# Altium schematic symbol library S3C2440V9.SCHLIB: 77 symbols
Pins are listed as number, name and electrical type; pins without a type are passive.

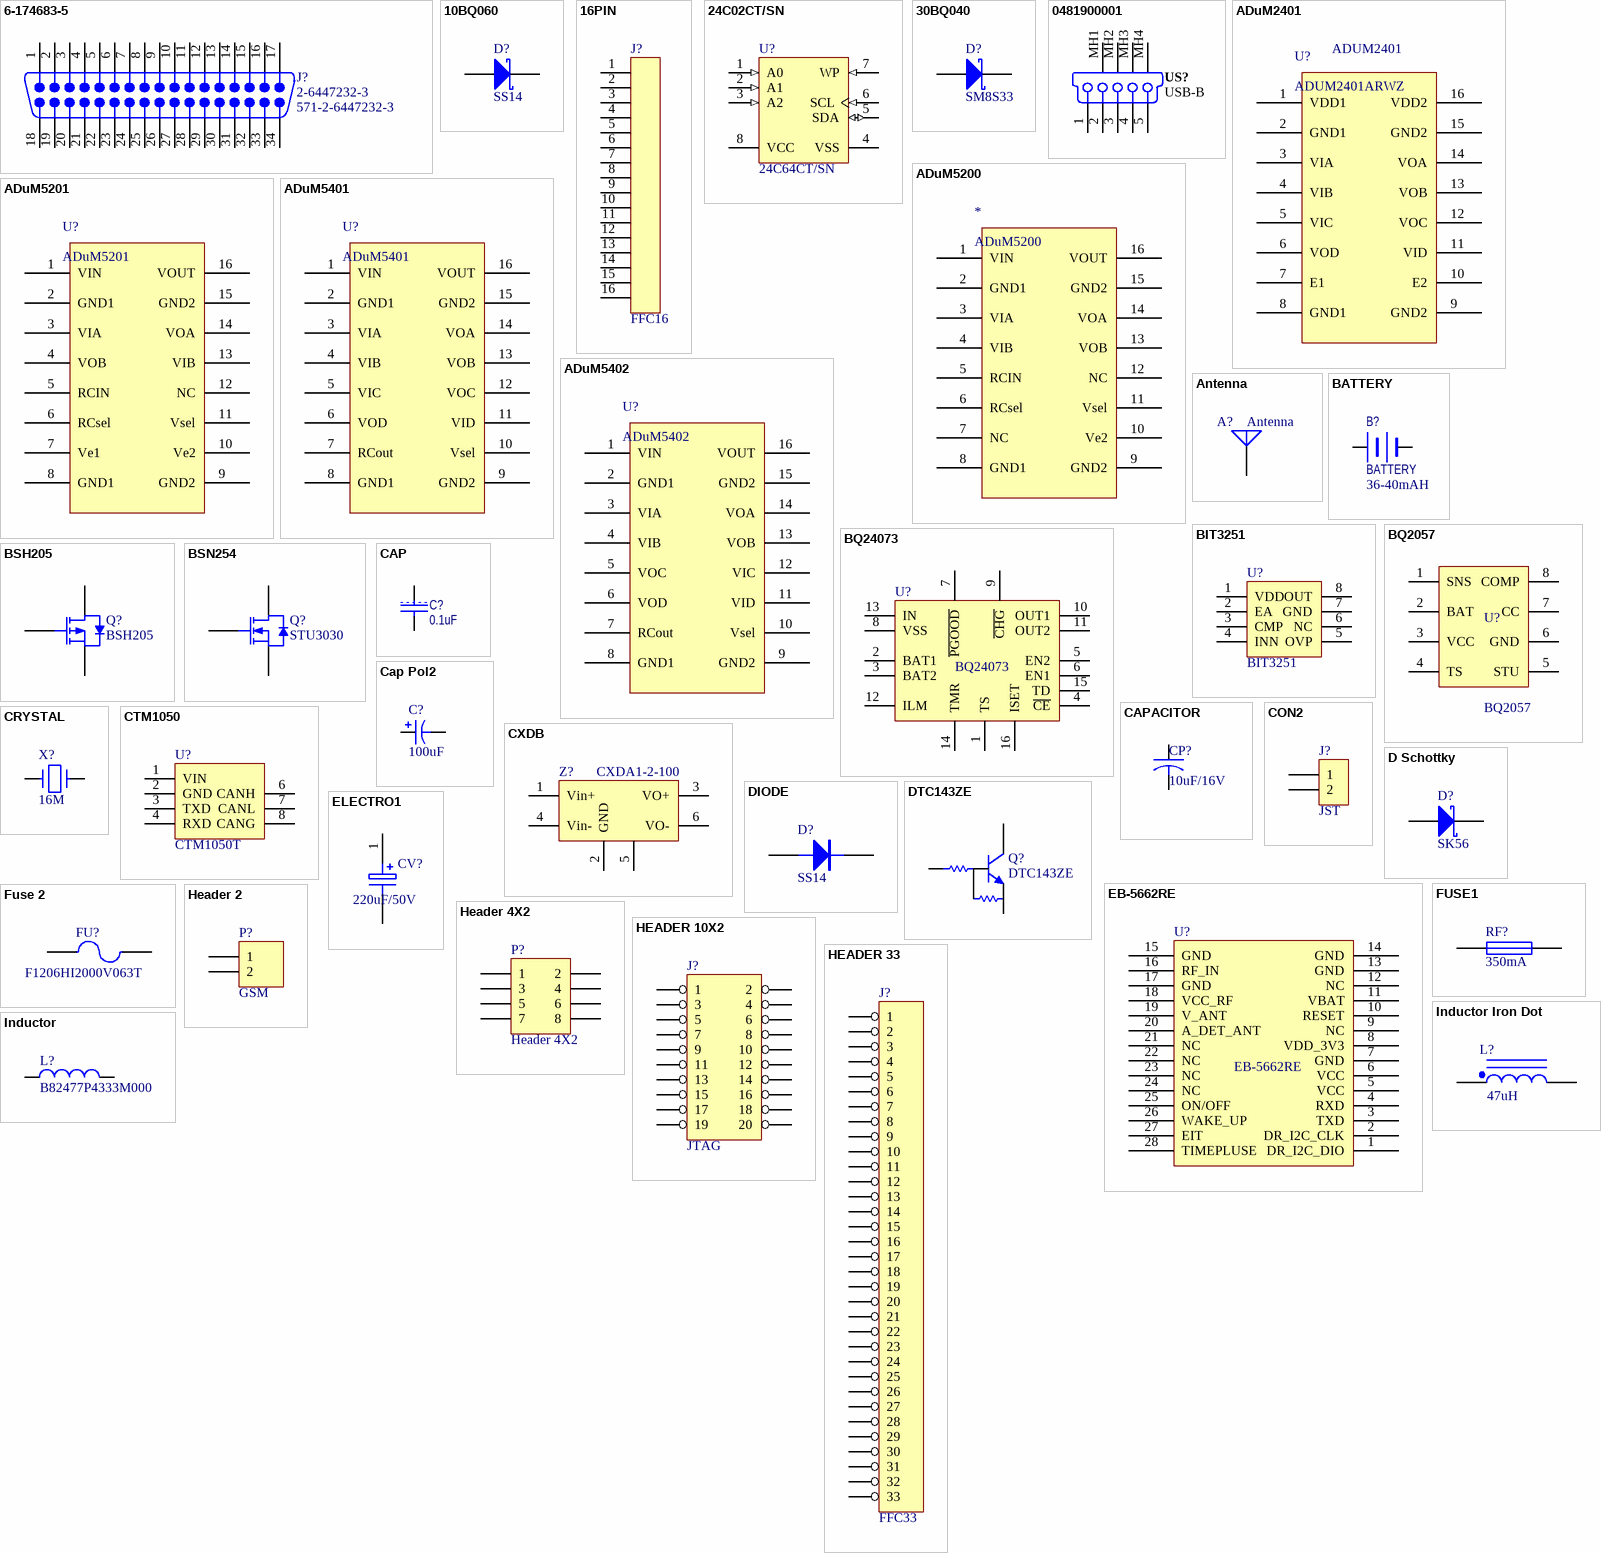
[diagram p0: symbols 6-174683-5 to Inductor Iron Dot]

## 6-174683-5
designator J?, comment 2-6447232-3  Supplier Part Number 1: 571-2-6447232-3
接插件; Positions: 34; Note: Series I; Gender: Plug Header; Note: Without Mating Lock; PCB_Layout: Complies with manufacturer's recommendation.; DrillSize: Corresponds to nominal value.; Published: 17-Jul-2002; DatasheetDocument: 29-Mar-1991; PackageDocument: 29-Mar-1991; PackageReference: 6-174683-5; Publisher: Altium Limited; Orientation: Vertical; ComponentLink1Description: Manufacturer Link; ComponentLink1URL: http://www.tycoelectronics.com/; ComponentLink2Description: Packaging Specification; ComponentLink2URL: http://ecommas.tycoelectronics.com/commerce/DocumentDelivery/DDEController?Action=showdoc&DocId=Customer+Drawing%7F174683%7FB%7Fpdf%7FEnglish%7FENG_CD_174683_B.pdf; ComponentLink3Description: Iges Model; ComponentLink3URL: http://catalog.tycoelectronics.com/TE/docs/cadgeo/0/13/30310.tar.gz; Supplier 1: Mouser
signal-integrity model D Subminiature
footprint 2-6447232-3 (Footprint not found)
pins: 1, 2, 3, 4, 5, 6, 7, 8, 9, 10, 11, 12, 13, 14, 15, 16, 17, 18, 19, 20, 21, 22, 23, 24, 25, 26, 27, 28, 29, 30, 31, 32, 33, 34

## 10BQ060
designator D?, comment SS14
肖特基二极管; Published: 8-Jun-2000; LatestRevisionDate: 17-Jul-2002; LatestRevisionNote: Re-released for DXP Platform.; DatasheetVersion: PD-2.438A; PackageReference: SMB; Publisher: Altium Limited; PackageDescription: DO-214-AA/SMB; 2 C-Bend Leads; Body 5.3 x 3.6 mm, inc. leads (LxW); ComponentLink1Description: Manufacturer Link; ComponentLink1URL: http://www.irf.com/; ComponentLink2Description: Datasheet; ComponentLink2URL: http://www.irf.com/product-info/datasheets/data/10bq60.pdf
simulation model 10BQ060 (DIODE)
signal-integrity model 10BQ060
footprint DIODE_SMC (Diode; 2 Leads)
pins: 1 A, 2 K

## 16PIN
designator J?, comment FFC16
接插件
footprint FFC/SM0.5-2H16 (Connector; FH12 Series; 16 Position; 0.5mm Spaced Bottom Contact)
pins: 1, 2, 3, 4, 5, 6, 7, 8, 9, 10, 11, 12, 13, 14, 15, 16

## 24C02CT/SN
designator U?, comment 24C64CT/SN
集成电路; Published: 29-Jan-2009; DatasheetVersion: revJ, Aug-2008; PackageVersion: revBB, Aug-2009; PackageReference: SOIC-SN8; Publisher: Altium Limited; PackageDescription: 8-Lead Plastic Small Outline (SN) - Narrow, 3.90mm Body [SOIC]; Supplier 1: Digi-Key; Supplier Part Number 1: 24C02CT/SN-ND; Code_JEDEC: MS-012; Code_IPC: SOIC127P600-8; ComponentLink1Description: Datasheet; ComponentLink1URL: http://ww1.microchip.com/downloads/en/DeviceDoc/21202J.pdf; ComponentLink2Description: Packaging Specification; ComponentLink2URL: http://www.microchip.com/stellent/groups/techpub_sg/documents/packagingspec/en012702.pdf; ComponentLink3Description: Microchip.com Home; ComponentLink3URL: http://www.microchip.com/; Supplier 2: Newark; Supplier Part Number 2: 08R5417
footprint SOIC-SN8_N (SOIC, 8-Leads, Body 4.9x3.8mm, Pitch 1.27mm, IPC Medium Density)
pins: 1 A0 (in), 2 A1 (in), 3 A2 (in), 4 VSS (power), 5 SDA (io), 6 SCL (in), 7 WP (in), 8 VCC (power)

## 30BQ040
designator D?, comment SM8S33
TVS; 公司: Vishay; Published: 8-Jun-2000; LatestRevisionDate: 17-Jul-2002; LatestRevisionNote: Re-released for DXP Platform.; DatasheetVersion: PD-2.439; PackageReference: SMC; Publisher: Altium Limited; PackageDescription: DO-214-AB/SMC; 2 C-Bend Leads; Body 7.9 x 5.9 mm, inc. leads (LxW); Code_JEDEC: DO-214-AB; ComponentLink1Description: Manufacturer Link; ComponentLink1URL: http://www.irf.com/; ComponentLink2Description: Datasheet; ComponentLink2URL: http://www.irf.com/product-info/datasheets/data/30bq040.pdf; 参数: *
signal-integrity model 30BQ040
footprint DIODE_SMC (Diode; 2 Leads)
pins: 1 A, 2 K

## 0481900001
designator US?, comment USB-B
USB On-The-Go (OTG) Mini-B Receptacle, Right Angle, SMT, 0.80mm (.031") Pitch, Solder Tabs with Back Cover, Recessed Type; Max Current: mA; Connector type: Right Angle; Mounting Technology: Surface Mount; Status: Unreleased; Category: Connector
footprint USB/SM0.8-6H5 (Connector; USB2.0, Type B, SM; 5 Position; Right Angle)
pins: 1, 2, 3, 4, 5, MH1, MH2, MH3, MH4

## ADuM2401
designator U?, comment ADUM2401ARWZ  Series: ADUM2401
ADuM2401 1IN 3OUT; Manufacturer: Analog Devices; Description: Isolator Interface IC Digital Quad-CH; Isolation Voltage: 846 V; Supply Current: 0.53 mA; Number of Channels: 4 Channel; Number of Input Lines: 3; Maximum Data Rate: 1 Mbps; Propagation Delay Time: 32 ns; Supply Voltage - Max: 5.5 V; Supply Voltage - Min: 2.7 V; Product Status: New at Mouser; Supplier 1: Mouser; Manufacturer Part Number: ADUM2401ARWZ; RoHS: RoHS Compliant; Category: Isolator Interface IC; Stock 1: 339; Pricing 1: 1=9.54, 10=8.59, 25=7.82, 50=7.29, 100=7.06, 250=6.48, 500=5.91, 1000=5.16, 2500=5.09 (AUD); Package / Case: SOIC-16; Packaging: Tube; Mounting Style: SMD/SMT; Maximum Operating Temperature: + 105 C; Minimum Operating Temperature: - 40 C; Standard Pack Qty: 47; RoHS - Mouser: Y; Minimum Order Quantity: 1; Reeling: False; ComponentLink1URL: http://www.analog.com/static/imported-files/data_sheets/ADuM2400_2401_2402.pdf; ComponentLink1Description: http://www.analog.com/static/imported-files/data_sheets/ADuM2400_2401_2402.pdf; Supplier Part Number 1: 584-ADUM2401ARWZ
footprint SOIC16W_N (SOIC, 16-Leads, Body 10.3x7.5mm, Pitch 1.27mm, IPC Low Density)
pins: 1 VDD1, 2 GND1, 3 VIA, 4 VIB, 5 VIC, 6 VOD, 7 E1, 8 GND1, 9 GND2, 10 E2, 11 VID, 12 VOC, 13 VOB, 14 VOA, 15 GND2, 16 VDD2

## ADuM5200
designator *
pins: 1 VIN, 2 GND1, 3 VIA, 4 VIB, 5 RCIN, 6 RCsel, 7 NC, 8 GND1, 9 GND2, 10 Ve2, 11 Vsel, 12 NC, 13 VOB, 14 VOA, 15 GND2, 16 VOUT

## ADuM5201
designator U?
pins: 1 VIN, 2 GND1, 3 VIA, 4 VOB, 5 RCIN, 6 RCsel, 7 Ve1, 8 GND1, 9 GND2, 10 Ve2, 11 Vsel, 12 NC, 13 VIB, 14 VOA, 15 GND2, 16 VOUT

## ADuM5401
designator U?
ADuM5401 1IN 3OUT
pins: 1 VIN, 2 GND1, 3 VIA, 4 VIB, 5 VIC, 6 VOD, 7 RCout, 8 GND1, 9 GND2, 10 Vsel, 11 VID, 12 VOC, 13 VOB, 14 VOA, 15 GND2, 16 VOUT

## ADuM5402
designator U?
ADuM5402 2IN 2OUT
pins: 1 VIN, 2 GND1, 3 VIA, 4 VIB, 5 VOC, 6 VOD, 7 RCout, 8 GND1, 9 GND2, 10 Vsel, 11 VID, 12 VIC, 13 VOB, 14 VOA, 15 GND2, 16 VOUT

## Antenna
designator A?
Generic Antenna; Published: 24-Mar-1999; LatestRevisionDate: 17-Jul-2002; LatestRevisionNote: Re-released for DXP Platform.; PackageReference: PIN1; Publisher: Altium Limited
footprint PIN1
pins: 1 A
2 alternate drawings of the same symbol

## BATTERY
designator B?  volume: 36-40mAH
电池座
footprint BR2032-1GV (CR2032-1GV)
pins: 1, 2

## BIT3251
designator U?
集成电路
footprint SOIC-SN8_N (SOIC, 8-Leads, Body 4.9x3.8mm, Pitch 1.27mm, IPC Medium Density)
pins: 1 VDD, 2 EA, 3 CMP, 4 INN, 5 OVP, 6 NC, 7 GND, 8 OUT

## BQ2057
designator U?
集成电路
footprint SOIC-SN8_N (SOIC, 8-Leads, Body 4.9x3.8mm, Pitch 1.27mm, IPC Medium Density)
pins: 1 SNS, 2 BAT, 3 VCC, 4 TS, 5 STU, 6 GND, 7 CC, 8 COMP

## BQ24073
designator U?
footprint BQ24073
pins: 1 TS, 2 BAT1, 3 BAT2, 4 ~{CE}, 5 EN2, 6 EN1, 7 ~{PGOOD}, 8 VSS, 9 ~{CHG}, 10 OUT1, 11 OUT2, 12 ILM, 13 IN, 14 TMR, 15 TD, 16 ISET
2 alternate drawings of the same symbol

## BSH205
designator Q?
P-channel Enhancement Mode MOSFET; Published: 17-Sep-2003; LatestRevisionDate: 12-Dec-2006; LatestRevisionNote: IPC-7351 Footprint Added.; DatasheetVersion: Aug-1998; PackageVersion: May-1999; PackageReference: SOT23; Publisher: Altium Limited; PackageDescription: 3-Pin SOT-23 Package 0.95 mm Pitch, 2.3 mm Lead Span; ComponentLink1Description: Manufacturer Link; ComponentLink1URL: http://www.semiconductors.philips.com/; ComponentLink2Description: Datasheet; ComponentLink2URL: http://www.semiconductors.philips.com/acrobat/datasheets/BSH205_3.pdf
footprint SOT23_N (SOT23, 3-Leads, Body 2.9x1.3mm, Pitch 0.95mm, Lead Span 2.3mm, IPC Medium Density)
footprint SOT23_L (SOT23, 3-Leads, Body 2.9x1.3mm, Pitch 0.95mm, Lead Span 2.3mm, IPC High Density)
footprint SOT23_M (SOT23, 3-Leads, Body 2.9x1.3mm, Pitch 0.95mm, Lead Span 2.3mm, IPC Low Density)
simulation model BSH205 (SUBCKT)
pins: 1 G, 2 S, 3 D

## BSN254
designator Q?, comment STU3030
NMOS; Published: 17-Sep-2003; LatestRevisionDate: 12-Dec-2006; LatestRevisionNote: Footprint pad layout fixed.; DatasheetVersion: 19-Feb-2002; PackageVersion: Mar-1998; PackageReference: SOT54_variant; Publisher: Altium Limited; PackageDescription: Plastic single-ended leaded (through hole) package; 3 leads on-circle; Code_JEITA: SC-43; Code_JEDEC: TO-92 Variant; ComponentLink1Description: Manufacturer Link; ComponentLink1URL: http://www.semiconductors.philips.com/; ComponentLink2Description: Datasheet; ComponentLink2URL: http://www.semiconductors.philips.com/acrobat/datasheets/BSN254_BSN254A_3.pdf
simulation model BSN254 (SUBCKT)
footprint TO-252AA_N (D-PAK, 4-Leads, Body 6.1x6.5mm, Pitch 2.28mm, Lead Span 9.9mm, IPC Medium Density)
pins: 1 G, 3 S, 4 D

## CAP
designator C?, comment 0.1uF
电容
footprint 1608[0603] (Chip Capacitor; Body 1.6 x 0.8 mm (LxW typ))
pins: 1, 2

## Cap Pol2
designator C?  value 100uF
Polarized Capacitor (Axial); Published: 8-Jun-2000; LatestRevisionDate: 17-Jul-2002; LatestRevisionNote: Re-released for DXP Platform.; PackageReference: POLAR0.8; Publisher: Altium Limited
footprint POLAR0.8
footprint CAPPA14.05-10.5x6.3
footprint CAPPA23.6-18.5x8.5
footprint CAPPA31.6-26.5x12.5
footprint 1206C
pins: 1, 2
2 alternate drawings of the same symbol

## CAPACITOR
designator CP?, comment 10uF/16V
坦电容
footprint 3216[1206] (Chip Resistor; Body 3.2 x 1.6 mm (LxW typ))
footprint 3528 (Capacitor, SM Tantalum; Body 3.5 x 2.8 mm (LxW typ))
pins: 1, 2

## CON2
designator J?, comment JST
接插件
footprint JST
pins: 1, 2

## CRYSTAL
designator X?, comment 16M
晶振; Part Field 1: 1; Part Field 5: 1; Part Field 6: 1000K
footprint OSC2PR-1
pins: 1, 2
2 alternate drawings of the same symbol

## CTM1050
designator U?, comment CTM1050T
集成电路
footprint DIP-7(8)W
pins: 1 VIN, 2 GND, 3 TXD, 4 RXD, 6 CANH, 7 CANL, 8 CANG

## CXDB
designator Z?, comment CXDA1-2-100
滤波器; 公司: 中北创新
footprint CXDA1-2-100
pins: 1 Vin+, 2 GND, 3 VO+, 4 Vin-, 5 GND, 6 VO-

## D Schottky
designator D?, comment SK56
肖特基二极管; Published: 8-Jun-2000; LatestRevisionDate: 17-Jul-2002; LatestRevisionNote: Re-released for DXP Platform.; PackageReference: SMB; Publisher: Altium Limited; PackageDescription: DO-214-AA/SMB; 2 C-Bend Leads; Body 5.3 x 3.6 mm, inc. leads (LxW); Code_JEDEC: DO-214-AA
simulation model SKYDIODE (Diode)
signal-integrity model D Schottky
footprint DIODE_SMC (Diode; 2 Leads)
pins: 1 A, 2 K

## DIODE
designator D?, comment SS14
Diode
footprint 1206-L
footprint SMA (DO-214-AC/SMA; 2 C-Bend Leads; Body 5 x 2.7 mm, inc. leads (LxW))
pins: 1 A, 2 K
2 alternate drawings of the same symbol

## DTC143ZE
designator Q?
footprint DTC143ZE
pins: 1 GND, 1, 2 IN, 3 OUT
2 alternate drawings of the same symbol

## EB-5662RE
designator U?
GPS
footprint EB-5662RE
pins: 1 DR_I2C_DIO, 2 DR_I2C_CLK, 3 TXD, 4 RXD, 5 VCC, 6 VCC, 7 GND, 8 VDD_3V3, 9 NC, 10 RESET, 11 VBAT, 12 NC, 13 GND, 14 GND, 15 GND, 16 RF_IN, 17 GND, 18 VCC_RF, 19 V_ANT, 20 A_DET_ANT, 21 NC, 22 NC, 23 NC, 24 NC, 25 ON/OFF, 26 WAKE_UP, 27 EIT, 28 TIMEPLUSE
2 alternate drawings of the same symbol

## ELECTRO1
designator CV?, comment 220uF/50V
铝电解电容; Manufacturer: Yageo; Value: 220uF; Model: CE050M0220REG-1010; Parameter: 220uF/50V
footprint CAP1010X100M (Precision Wire Wound CAP, 2-Leads, Body 10.6x10.6mm, IPC Low Density)
simulation model CAP (Default semiconductor capacitor)
signal-integrity model CAP (Model Description)
pins: 1, 2

## FUSE1
designator RF?, comment value 350mA  (hidden comment: NanoSMDC035F)
保险
footprint 1206F
pins: 1, 2

## Fuse 2
designator FU?, comment F1206HI2000V063T
保险; 公司: AEM; 参数: 63V 2A; Published: 8-Jun-2000; LatestRevisionDate: 17-Jul-2002; LatestRevisionNote: Re-released for DXP Platform.; PackageReference: PIN-W2/E2.8; Publisher: Altium Limited; PackageDescription: Thru-Hole; 2 Leads
simulation model FUSE (Spice Subcircuit)
footprint 1206F
pins: 1, 2

## Header 2
designator P?, comment GSM
Header, 2-Pin; LatestRevisionDate: 17-Jul-2002; LatestRevisionNote: Re-released for DXP Platform.; Publisher: Altium Limited
footprint HDR1X2 (Connector; Header; 2 Position)
signal-integrity model Connector
pins: 1, 2

## Header 4X2
designator P?
Header, 4-Pin, Dual row; LatestRevisionDate: 17-Jul-2002; LatestRevisionNote: Re-released for DXP Platform.; Publisher: Altium Limited
footprint HDR2X4 (Connector; Header; 4x2 Position)
signal-integrity model Connector
pins: 1, 2, 3, 4, 5, 6, 7, 8

## HEADER 10X2
designator J?, comment JTAG
接插件
footprint IDC20S
pins: 1, 2, 3, 4, 5, 6, 7, 8, 9, 10, 11, 12, 13, 14, 15, 16, 17, 18, 19, 20

## HEADER 33
designator J?, comment FFC33
接插件
footprint FFC/SM0.5-2H33 (Connector; FH12 Series; 33 Position; 0.5mm Spaced Bottom Contact)
pins: 1, 2, 3, 4, 5, 6, 7, 8, 9, 10, 11, 12, 13, 14, 15, 16, 17, 18, 19, 20, 21, 22, 23, 24, 25, 26, 27, 28, 29, 30, 31, 32, 33

## Inductor
designator L?, comment B82477P4333M000
电感; Code_IEC: 1005; Value: 33uH; parameters: 3.5A; Published: 8-Jun-2000; LatestRevisionDate: 29-May-2009; LatestRevisionNote: IPC-7351 Footprint Added.; PackageReference: 0402-A; Publisher: Altium Limited; PackageDescription: Chip Inductor; Code_JEITA: 0402; Manufacturer: *
simulation model INDUCTOR (Inductor)
signal-integrity model Inductor
footprint INDP1010
pins: 1, 2

## Inductor Iron Dot
designator L?, comment value 47uH  (hidden comment: LQH66SN470M03)
村田电感; Manufacturer: TDK; Initial Current: 0.49; Published: 24-Mar-1999; LatestRevisionDate: 17-Jul-2002; LatestRevisionNote: Re-released for DXP Platform.; PackageReference: DIODE_SMC; Publisher: Altium Limited; PackageDescription: Diode; 2 Leads
signal-integrity model Inductor Iron Dot
simulation model Inductor (Model Description)
footprint INDP5050X28N
pins: 1, 2

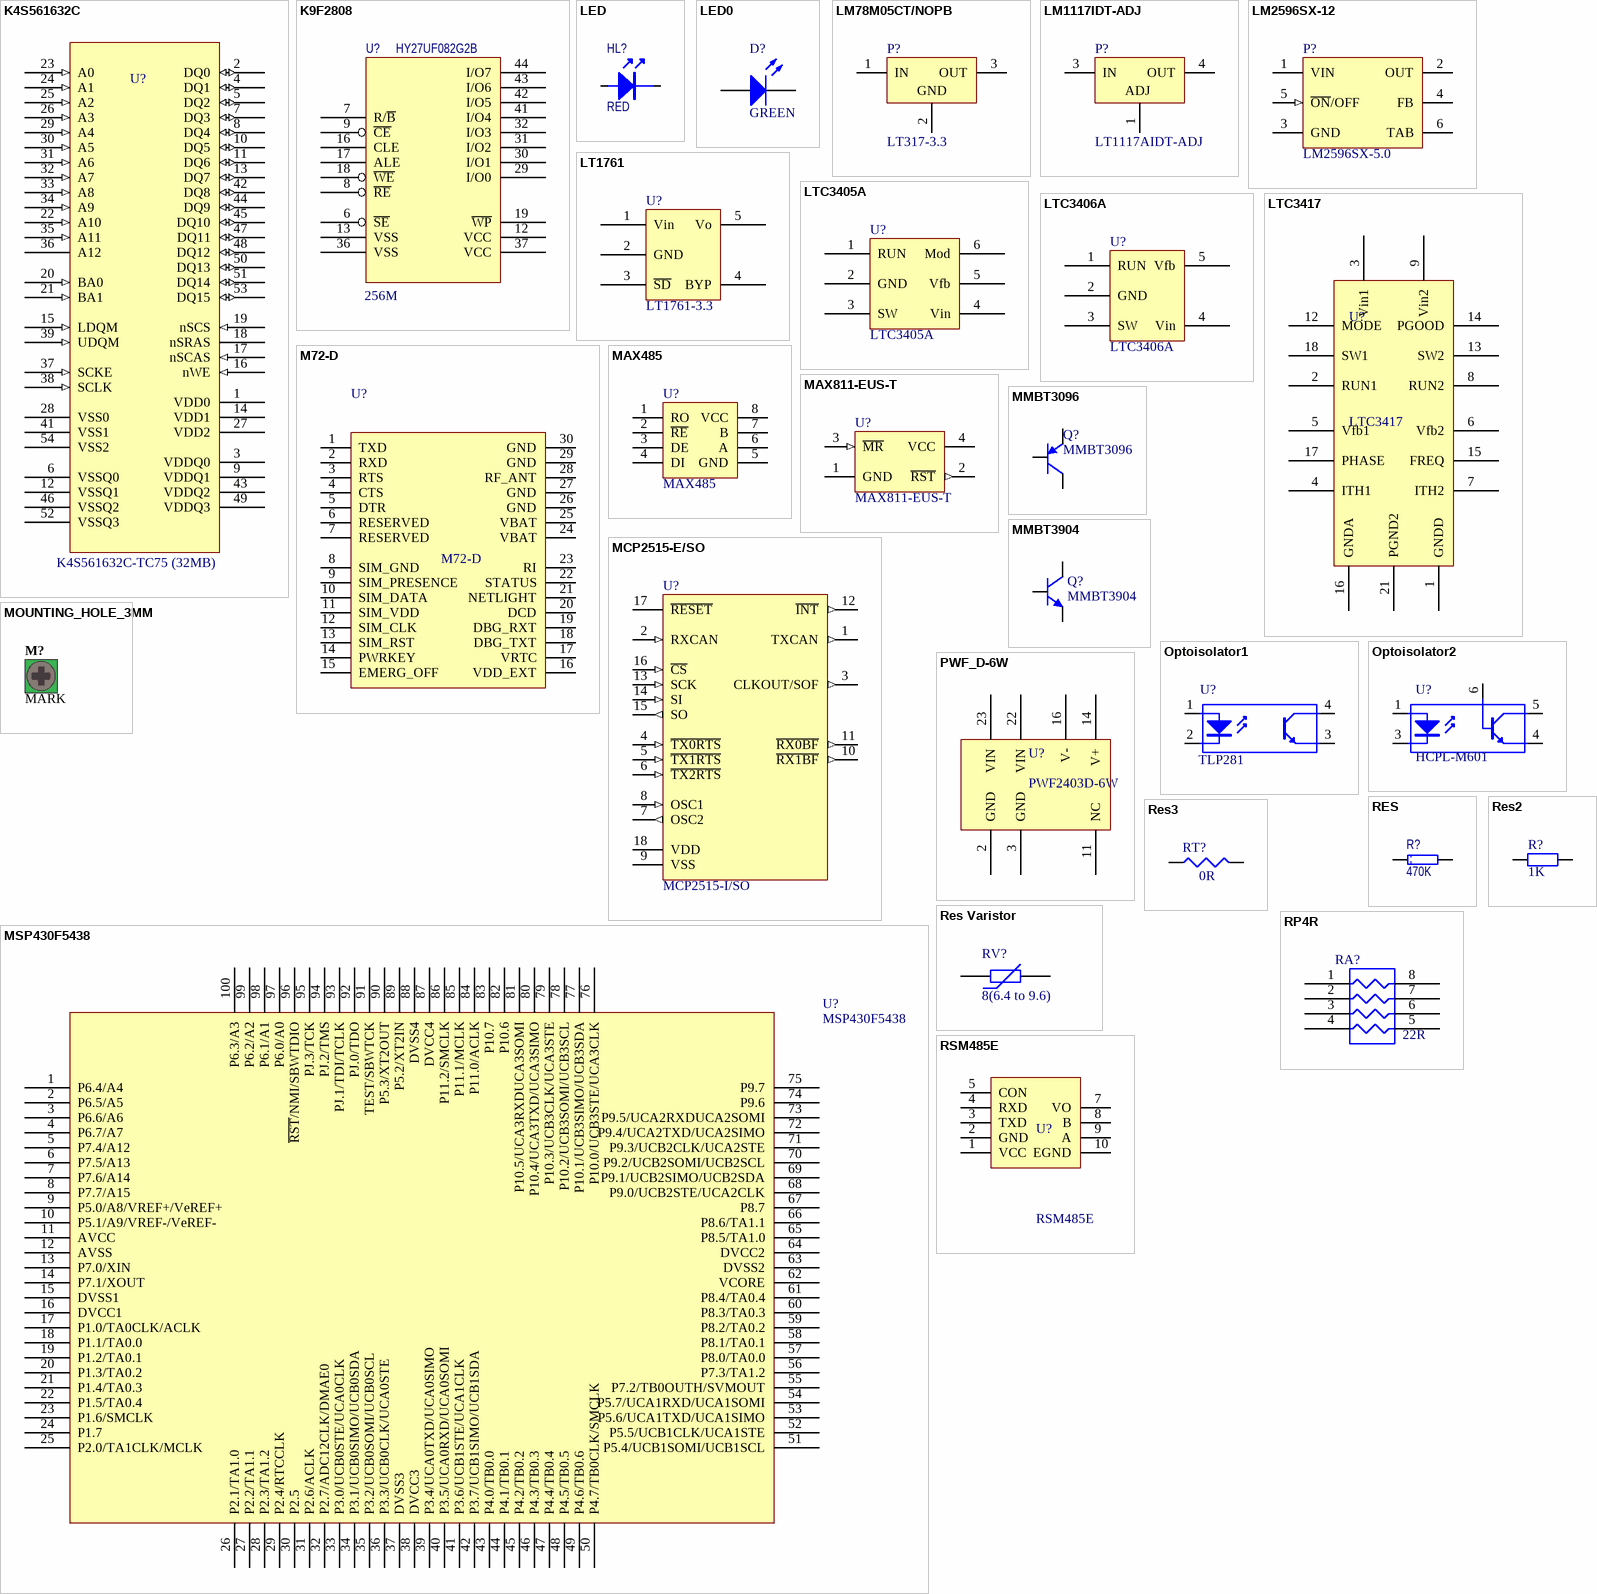
[diagram p1: symbols K4S561632C to RSM485E]

## K4S561632C
designator U?, comment K4S561632C-TC75 (32MB)
集成电路; Text Field1: 100; Text Field2: 340
footprint TSOP80P1180X120-54N (TSOP, 54-Leads, Body 22.2x10.2mm (max), Pitch 0.80mm, IPC Medium Density)
pins: 1 VDD0 (power), 2 DQ0 (io), 3 VDDQ0 (power), 4 DQ1 (io), 5 DQ2 (io), 6 VSSQ0 (power), 7 DQ3 (io), 8 DQ4 (io), 9 VDDQ1 (power), 10 DQ5 (io), 11 DQ6 (io), 12 VSSQ1 (power), 13 DQ7 (io), 14 VDD1 (power), 15 LDQM (in), 16 nWE (in), 17 nSCAS (in), 18 nSRAS, 19 nSCS (in), 20 BA0 (in), 21 BA1 (in), 22 A10 (in), 23 A0 (in), 24 A1 (in), 25 A2 (in), 26 A3 (in), 27 VDD2 (power), 28 VSS0 (power), 29 A4 (in), 30 A5 (in), 31 A6 (in), 32 A7 (in), 33 A8 (in), 34 A9 (in), 35 A11 (in), 36 A12, 37 SCKE (in), 38 SCLK (in), 39 UDQM (in), 41 VSS1 (power), 42 DQ8 (io), 43 VDDQ2 (power), 44 DQ9 (io), 45 DQ10 (io), 46 VSSQ2 (power), 47 DQ11 (io), 48 DQ12 (io), 49 VDDQ3 (power), 50 DQ13 (io), 51 DQ14 (io), 52 VSSQ3 (power), 53 DQ15 (io), 54 VSS2 (power)

## K9F2808
designator U?, comment HY27UF082G2B  value 256M
集成电路
footprint TSOP48
pins: 6 ~{SE}, 7 R/~{B}, 8 ~{RE}, 9 ~{CE}, 12 VCC (power), 13 VSS, 16 CLE, 17 ALE, 18 ~{WE}, 19 ~{WP}, 29 I/O0, 30 I/O1, 31 I/O2, 32 I/O3, 36 VSS, 37 VCC (power), 41 I/O4, 42 I/O5, 43 I/O6, 44 I/O7

## LED
designator HL?, comment RED
发光管; Votage: 1.82-1.88V; I: 5-8mA
footprint LED0805
pins: 1, 2

## LED0
designator D?, comment GREEN
Typical INFRARED GaAs LED; Published: 8-Jun-2000; LatestRevisionDate: 08-Jul-2005; LatestRevisionNote: Mech Layer 1 removed.; PackageReference: LED-0; Publisher: Altium Limited
footprint LED-0
footprint 0805
footprint 0805-LED
pins: 1 A, 2 K
2 alternate drawings of the same symbol

## LM78M05CT/NOPB
designator P?, comment LT317-3.3
电源模块; PartNumber: LM78M05CT/NOPB; Manufacturer: National Semiconductor; PackageTopMarking: NSUZXYTTE#*LM341T-5.0*LM78M05CT; PowerWise: N; CompType: LDO IC; Published: 1-Mar-2010; DatasheetVersion: Aug-2005; PackageVersion: revL, Jan-1992; PackageReference: T03B; Publisher: Altium Limited; PackageDescription: TO-220, Molded, 3 Lead, Straight; Supplier 1: Digi-Key; Supplier Part Number 1: LM78M05CT-ND; Supplier 2: Farnell; Supplier Part Number 2: 1685493; RoHS: Y; PinCount: 3; ComponentLink1Description: LM78M05 Datasheet; ComponentLink1URL: http://www.national.com/ds/LM/LM78M05.pdf; ComponentLink2Description: LM78M05 Web Page; ComponentLink2URL: http://www.national.com/pf/LM/LM78M05.html; ComponentLink3Description: T03B Package Page; ComponentLink3URL: http://www.national.com/packaging/folders/t03b.html
footprint D2PAK_N (D2-PAK, 4-Leads, Body 8.8x10.4mm, Pitch 2.54mm, Lead Span 15.1mm, IPC Medium Density)
pins: 1 IN (power), 2 GND (power), 3 OUT (power)

## LM1117IDT-ADJ
designator P?, comment LT1117AIDT-ADJ
电源模块; PartNumber: LM1117IDT-ADJ; Manufacturer: National Semiconductor; PackageTopMarking: NSUZXYTT*LM1117*IDT-ADJ; PowerWise: N; CompType: LDO IC; Published: 4-Dec-2008; DatasheetVersion: Apr-2006; PackageVersion: revD, Feb-2009; PackageReference: TD03B; Publisher: Altium Limited; PackageDescription: TO252, Molded, Jedec, 6.8 x 6.10 x 2.30mm Body, 3 Lead, 2.28mm Pitch, Surface Mount; RoHS: N; PinCount: 3; Code_JEDEC: TO-252-AA; ComponentLink1Description: LM1117 Datasheet; ComponentLink1URL: http://www.national.com/ds/LM/LM1117.pdf; ComponentLink2Description: LM1117 Web Page; ComponentLink2URL: http://www.national.com/pf/LM/LM1117.html; ComponentLink3Description: TD03B Package Page; ComponentLink3URL: http://www.national.com/packaging/folders/td03b.html
footprint SOT223_N (SOT223, 4-Leads, Body 6.5x3.5mm, Pitch 2.3mm, Lead Span 7mm, IPC Medium Density)
pins: 1 ADJ, 3 IN (power), 4 OUT (power)

## LM2596SX-12
designator P?, comment LM2596SX-5.0
电源模块; PartNumber: LM2596SX-12; Manufacturer: National Semiconductor; PackageTopMarking: NSUZXYTTE#*LM2596S*-12 P+; PowerWise: N; CompType: Switcher; Published: 1-Mar-2010; DatasheetVersion: May-2002; PackageVersion: revD, Apr-2005; PackageReference: TS5B; Publisher: Altium Limited; PackageDescription: TO-263, Molded, .400 x .390 x .180in, 5 Lead, .067in Pitch, Surface Mount; RoHS: N; PinCount: 5; Code_JEDEC: MO-169-AB; ComponentLink1Description: LM2596 Datasheet; ComponentLink1URL: http://www.national.com/ds/LM/LM2596.pdf; ComponentLink2Description: LM2596 Web Page; ComponentLink2URL: http://www.national.com/pf/LM/LM2596.html; ComponentLink3Description: TS5B Package Page; ComponentLink3URL: http://www.national.com/packaging/folders/ts5b.html; Supplier 1: Digi-Key; Supplier Part Number 1: LM2596SX-12-ND
footprint TS5B_N (D2-PAK, 6-Leads, Body 8.6x10.2mm, Pitch 1.7mm, Lead Span 14.1mm, IPC Medium Density)
pins: 1 VIN (power), 2 OUT (power), 3 GND (power), 4 FB, 5 ~{ON}/OFF (in), 6 TAB (power)

## LT1761
designator U?, comment LT1761-3.3
电源管理
pins: 1 Vin, 2 GND, 3 ~{SD}, 4 BYP, 5 Vo

## LTC3405A
designator U?
电源管理
pins: 1 RUN, 2 GND, 3 SW, 4 Vin, 5 Vfb, 6 Mod

## LTC3406A
designator U?
电源管理
pins: 1 RUN, 2 GND, 3 SW, 4 Vin, 5 Vfb

## LTC3417
designator U?
电源管理
pins: 1 GNDD, 2 RUN1, 3 Vin1, 4 ITH1, 5 Vfb1, 6 Vfb2, 7 ITH2, 8 RUN2, 9 Vin2, 10 PGND2 hidden, 11 PGND2 hidden, 12 MODE, 13 SW2, 14 PGOOD, 15 FREQ, 16 GNDA, 17 PHASE, 18 SW1, 19 PGND1 hidden, 20 GNDD hidden, 21 PGND2

## M72-D
designator U?
footprint M72D
footprint M72D
pins: 1 TXD, 2 RXD, 3 RTS, 4 CTS, 5 DTR, 6 RESERVED, 7 RESERVED, 8 SIM_GND, 9 SIM_PRESENCE, 10 SIM_DATA, 11 SIM_VDD, 12 SIM_CLK, 13 SIM_RST, 14 PWRKEY, 15 EMERG_OFF, 16 VDD_EXT, 17 VRTC, 18 DBG_TXT, 19 DBG_RXT, 20 DCD, 21 NETLIGHT, 22 STATUS, 23 RI, 24 VBAT, 25 VBAT, 26 GND, 27 GND, 28 RF_ANT, 29 GND, 30 GND
2 alternate drawings of the same symbol

## MAX485
designator U?
集成电路
footprint NSO8_N (SOIC, 8-Leads, Body 4.9x3.9mm, Pitch 1.27mm, IPC Medium Density)
3D model NSO8 (PCB3D Model)
pins: 1 RO, 2 ~{RE}, 3 DE, 4 DI, 5 GND, 6 A, 7 B, 8 VCC
2 alternate drawings of the same symbol

## MAX811-EUS-T
designator U?
集成电路; Published: 16-Jan-2001; LatestRevisionDate: 29-May-2009; LatestRevisionNote: IPC-7351 Footprint Added.; DatasheetVersion: Feb-1998; PackageVersion: Feb-1998; PackageReference: SOT143; Publisher: Altium Limited; PackageDescription: 4-Pin SOT-143 Package 1.9 mm Pitch, 2.3 mm Lead Span; ComponentLink1Description: Manufacturer Link; ComponentLink1URL: http://www.maxim-ic.com/; ComponentLink2Description: Datasheet; ComponentLink2URL: http://pdfserv.maxim-ic.com/en/ds/MAX811-MAX812.pdf; Supplier 1: Digi-Key; Supplier Part Number 1: MAX811SEUS+TTR-ND
footprint SOT143_N (SOT143, 4-Leads, Body 2.9x1.3mm, Pitch 1.9mm, Lead Span 2.3mm, IPC Medium Density)
pins: 1 GND (power), 2 ~{RST} (out), 3 ~{MR} (in), 4 VCC (power)

## MCP2515-E/SO
designator U?, comment MCP2515-I/SO
集成电路; Published: 29-Jan-2009; DatasheetVersion: revE, Nov-2007; PackageVersion: revBB, Aug-2009; PackageReference: SOIC-SO18; Publisher: Altium Limited; PackageDescription: 18-Lead Plastic Small Outline (SO) - Wide 7.50mm Body [SOIC]; Supplier 1: Digi-Key; Supplier Part Number 1: MCP2515-E/SO-ND; Supplier 2: Farnell; Supplier Part Number 2: 1605565; Code_JEDEC: MS-013; ComponentLink1Description: Datasheet; ComponentLink1URL: http://ww1.microchip.com/downloads/en/DeviceDoc/21801e.pdf; ComponentLink2Description: Packaging Specification; ComponentLink2URL: http://www.microchip.com/stellent/groups/techpub_sg/documents/packagingspec/en012702.pdf; ComponentLink3Description: Microchip.com Home; ComponentLink3URL: http://www.microchip.com/
footprint SOIC-SO18_N (SOIC, 18-Leads, Body 11.5x7.5mm, Pitch 1.27mm, IPC Medium Density)
pins: 1 TXCAN (out), 2 RXCAN (in), 3 CLKOUT/SOF (out), 4 ~{TX0RTS} (in), 5 ~{TX1RTS} (in), 6 ~{TX2RTS} (in), 7 OSC2 (out), 8 OSC1 (in), 9 VSS (power), 10 ~{RX1BF} (out), 11 ~{RX0BF} (out), 12 ~{INT} (out), 13 SCK (in), 14 SI (in), 15 SO (out), 16 ~{CS} (in), 17 ~{RESET}, 18 VDD (power)

## MMBT3096
designator Q?
footprint SOT23-PNP
pins: 1, 2, 3
2 alternate drawings of the same symbol

## MMBT3904
designator Q?
footprint SOT23-NPN
pins: 1, 2, 3
2 alternate drawings of the same symbol

## MOUNTING_HOLE_3MM
designator M?, comment MARK  (no BOM)
Mounting Hole, M3 Screw, Plated, Square Pad; Status: Production; Category: Mounting-Hole
footprint Mark
pins: 1 hidden

## MSP430F5438
designator U?
footprint MSP430F5438_PQFP_100 (TSQFP, 100-Leads, Body 16.2x16.2mm (max), Pitch 0.50mm, IPC Low Density)
pins: 1 P6.4/A4, 2 P6.5/A5, 3 P6.6/A6, 4 P6.7/A7, 5 P7.4/A12, 6 P7.5/A13, 7 P7.6/A14, 8 P7.7/A15, 9 P5.0/A8/VREF+/VeREF+, 10 P5.1/A9/VREF-/VeREF-, 11 AVCC, 12 AVSS, 13 P7.0/XIN, 14 P7.1/XOUT, 15 DVSS1, 16 DVCC1, 17 P1.0/TA0CLK/ACLK, 18 P1.1/TA0.0, 19 P1.2/TA0.1, 20 P1.3/TA0.2, 21 P1.4/TA0.3, 22 P1.5/TA0.4, 23 P1.6/SMCLK, 24 P1.7, 25 P2.0/TA1CLK/MCLK, 26 P2.1/TA1.0, 27 P2.2/TA1.1, 28 P2.3/TA1.2, 29 P2.4/RTCCLK, 30 P2.5, 31 P2.6/ACLK, 32 P2.7/ADC12CLK/DMAE0, 33 P3.0/UCB0STE/UCA0CLK, 34 P3.1/UCB0SIMO/UCB0SDA, 35 P3.2/UCB0SOMI/UCB0SCL, 36 P3.3/UCB0CLK/UCA0STE, 37 DVSS3, 38 DVCC3, 39 P3.4/UCA0TXD/UCA0SIMO, 40 P3.5/UCA0RXD/UCA0SOMI, 41 P3.6/UCB1STE/UCA1CLK, 42 P3.7/UCB1SIMO/UCB1SDA, 43 P4.0/TB0.0, 44 P4.1/TB0.1, 45 P4.2/TB0.2, 46 P4.3/TB0.3, 47 P4.4/TB0.4, 48 P4.5/TB0.5, 49 P4.6/TB0.6, 50 P4.7/TB0CLK/SMCLK, 51 P5.4/UCB1SOMI/UCB1SCL, 52 P5.5/UCB1CLK/UCA1STE, 53 P5.6/UCA1TXD/UCA1SIMO, 54 P5.7/UCA1RXD/UCA1SOMI, 55 P7.2/TB0OUTH/SVMOUT, 56 P7.3/TA1.2, 57 P8.0/TA0.0, 58 P8.1/TA0.1, 59 P8.2/TA0.2, 60 P8.3/TA0.3, 61 P8.4/TA0.4, 62 VCORE, 63 DVSS2, 64 DVCC2, 65 P8.5/TA1.0, 66 P8.6/TA1.1, 67 P8.7, 68 P9.0/UCB2STE/UCA2CLK, 69 P9.1/UCB2SIMO/UCB2SDA, 70 P9.2/UCB2SOMI/UCB2SCL, 71 P9.3/UCB2CLK/UCA2STE, 72 P9.4/UCA2TXD/UCA2SIMO, 73 P9.5/UCA2RXDUCA2SOMI, 74 P9.6, 75 P9.7, 76 P10.0/UCB3STE/UCA3CLK, 77 P10.1/UCB3SIMO/UCB3SDA, 78 P10.2/UCB3SOMI/UCB3SCL, 79 P10.3/UCB3CLK/UCA3STE, 80 P10.4/UCA3TXD/UCA3SIMO, 81 P10.5/UCA3RXDUCA3SOMI, 82 P10.6, 83 P10.7, 84 P11.0/ACLK, 85 P11.1/MCLK, 86 P11.2/SMCLK, 87 DVCC4, 88 DVSS4, 89 P5.2/XT2IN, 90 P5.3/XT2OUT, 91 TEST/SBWTCK, 92 PJ.0/TDO, 93 PJ.1/TDI/TCLK, 94 PJ.2/TMS, 95 PJ.3/TCK, 96 ~{RST}/NMI/SBWTDIO, 97 P6.0/A0, 98 P6.1/A1, 99 P6.2/A2, 100 P6.3/A3

## Optoisolator1
designator U?, comment TLP281
光耦; Published: 24-Mar-1999; LatestRevisionDate: 04-Mar-2005; LatestRevisionNote: Sch pins 3 & 4 Swapped.; DatasheetVersion: Nov-2003; PackageReference: DIP-4; Publisher: Altium Limited
footprint SSOP4_N
pins: 1 A, 2 K, 3 E, 4 C
2 alternate drawings of the same symbol

## Optoisolator2
designator U?, comment HCPL-M601
光耦; Published: 24-Mar-1999; LatestRevisionDate: 04-Mar-2005; LatestRevisionNote: PCB Footprint replaced, Sch pins re-numbered.; DatasheetVersion: Apr-2004; PackageReference: SOP5(6); Publisher: Altium Limited; PackageDescription: Small Outline; 6 Leads (1 Absent); Body Width 4.4 mm; Pitch 1.27 mm
footprint SOP5(6)
pins: 1 A, 3 K, 4 E, 5 C, 6 B
2 alternate drawings of the same symbol

## PWF_D-6W
designator U?, comment PWF2403D-6W
PWF_D-6W 4:1 3000V 78%
pins: 2 GND, 3 GND, 11 NC, 14 V+, 16 V-, 22 VIN, 23 VIN

## RES
designator R?, comment 470K
电阻; Manufacturer: Yageo; Model: RT0603DRD7D10KL; Value: 470K; Type: RES
footprint 0603R
signal-integrity model RES (Model Description)
simulation model RES (Default semiconductor resistor)
pins: 1, 2

## Res2
designator R?  value 1K  (hidden comment: Res2)
Resistor; Published: 8-Jun-2000; LatestRevisionDate: 17-Jul-2002; LatestRevisionNote: Re-released for DXP Platform.; PackageReference: AXIAL-0.4; Publisher: Altium Limited
footprint AXIAL-0.4
footprint 0805
footprint 0603
pins: 1, 2
2 alternate drawings of the same symbol

## Res3
designator RT?, comment 0R
电阻; Manufacturer: Yageo; Model: RT0805DRD7D0RL; Published: 8-Jun-2000; LatestRevisionDate: 29-May-2009; LatestRevisionNote: IPC-7351 Footprint Added.; PackageReference: J1-0603; Publisher: Altium Limited; PackageDescription: Chip Resistor; Value: 0R; Type: RES
simulation model RESISTOR (Resistor)
signal-integrity model Res
footprint 2012[0805] (Chip Resistor; Body 2.0 x 1.3 mm (LxW typ))
pins: 1, 2

## Res Varistor
designator RV?, comment 8(6.4 to 9.6)
压敏电阻; Manufacture: TDK; Value: AVR-M1608C080MAAB; Published: 24-Mar-1999; LatestRevisionDate: 29-May-2009; LatestRevisionNote: IPC-7351 Footprint Added.; PackageVersion: Mar-2003; PackageReference: 6-0805; Publisher: Altium Limited; PackageDescription: Chip Resistor 0805 Case Size; Code_IPC: RESC2012
footprint 0603RV
pins: 1, 2

## RP4R
designator RA?, comment 22R
阻排; Manufacturer: Yageo; Model: YC164-FR-0722RL; Value: 22R
footprint R-AR4
pins: 1 R1, 2 R2, 3 R3, 4 R4, 5 R4, 6 R3, 7 R2, 8 R1

## RSM485E
designator U?
集成电路; 公司: NXP
footprint SOIC-SN8_N (Footprint not found)
pins: 1 VCC, 2 GND, 3 TXD, 4 RXD, 5 CON, 7 VO, 8 B, 9 A, 10 EGND

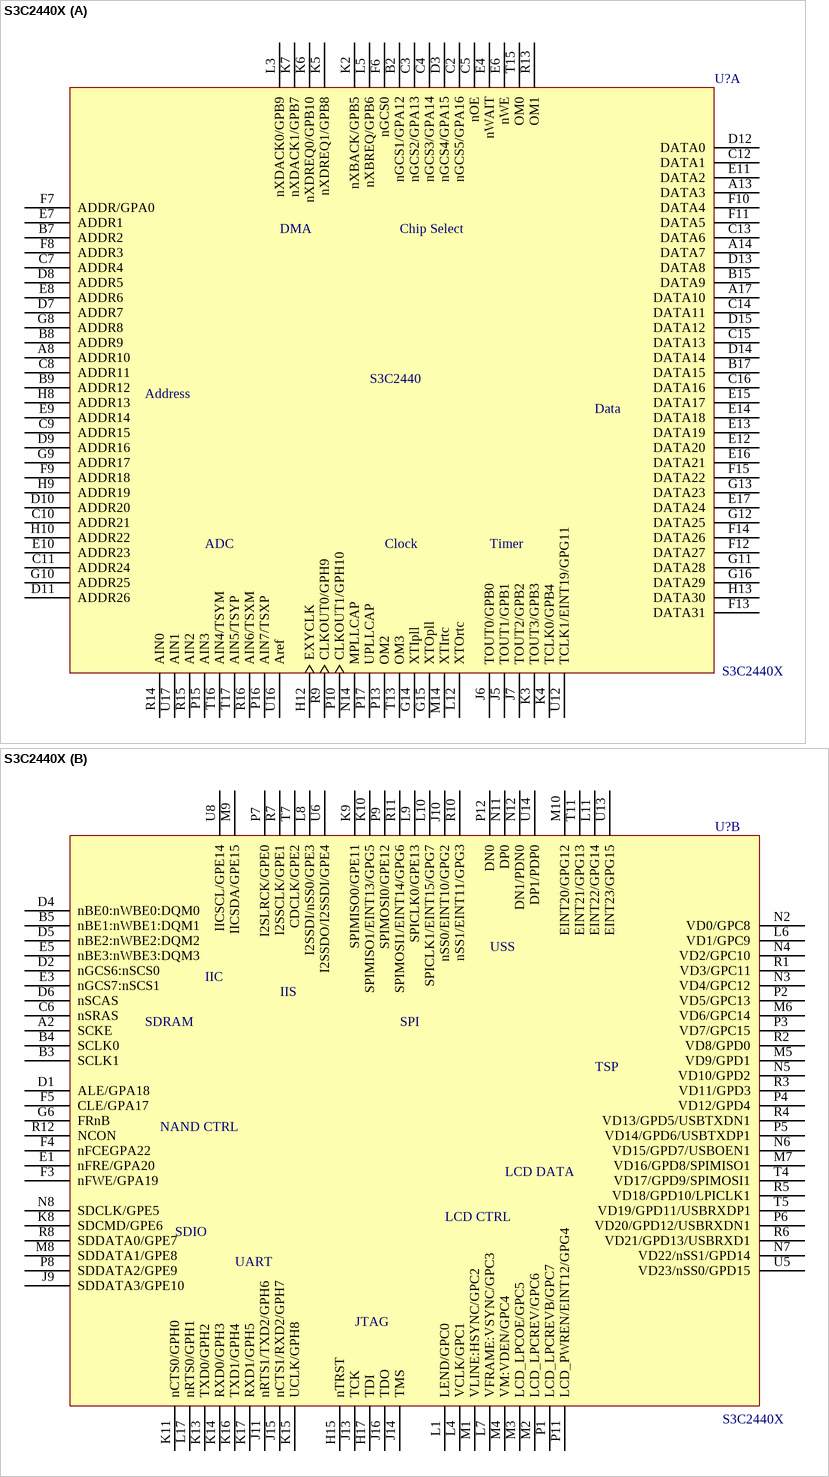
[diagram p2: symbol S3C2440X]

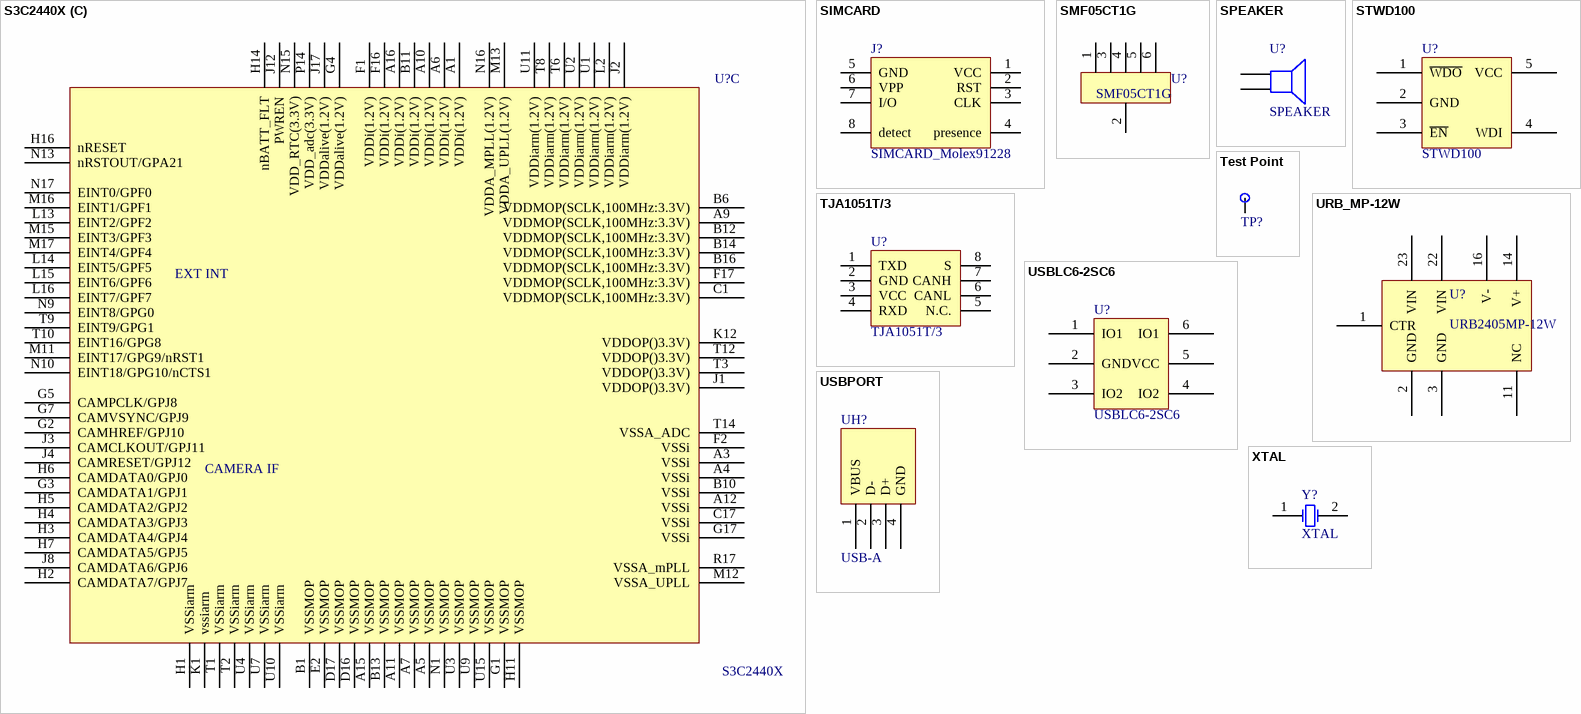
[diagram p3: symbols S3C2440X to XTAL]

## S3C2440X
designator U?
集成电路
footprint BGA289
part A pins: A8 ADDR10, A13 DATA3, A14 DATA7, A17 DATA10, B2 nGCS1/GPA12, B7 ADDR2, B8 ADDR9, B9 ADDR12, B15 DATA9, B17 DATA15, C2 nGCS5/GPA16, C3 nGCS2/GPA13, C4 nGCS3/GPA14, C5 nOE, C7 ADDR4, C8 ADDR11, C9 ADDR15, C10 ADDR21, C11 ADDR24, C12 DATA1, C13 DATA6, C14 DATA11, C15 DATA13, C16 DATA16, D3 nGCS4/GPA15, D7 ADDR7, D8 ADDR5, D9 ADDR16, D10 ADDR20, D11 ADDR26, D12 DATA0, D13 DATA8, D14 DATA14, D15 DATA12, E4 nWAIT, E6 nWE, E7 ADDR1, E8 ADDR6, E9 ADDR14, E10 ADDR23, E11 DATA2, E12 DATA20, E13 DATA19, E14 DATA18, E15 DATA17, E16 DATA21, E17 DATA24, F6 nGCS0, F7 ADDR/GPA0, F8 ADDR3, F9 ADDR18, F10 DATA4, F11 DATA5, F12 DATA27, F13 DATA31, F14 DATA26, F15 DATA22, G8 ADDR8, G9 ADDR17, G10 ADDR25, G11 DATA28, G12 DATA25, G13 DATA23, G14 XTIpll, G15 XTOpll, G16 DATA29, H8 ADDR13, H9 ADDR19, H10 ADDR22, H12 EXYCLK, H13 DATA30, J5 TOUT1/GPB1, J6 TOUT0/GPB0, J7 TOUT2/GPB2, K2 nXBACK/GPB5, K3 TOUT3/GPB3, K4 TCLK0/GPB4, K5 nXDREQ1/GPB8, K6 nXDREQ0/GPB10, K7 nXDACK1/GPB7, L3 nXDACK0/GPB9, L5 nXBREQ/GPB6, L12 XTOrtc, M14 XTIrtc, N14 MPLLCAP, P10 CLKOUT1/GPH10, P13 OM2, P15 AIN3, P16 AIN7/TSXP, P17 UPLLCAP, R9 CLKOUT0/GPH9, R13 OM1, R14 AIN0, R15 AIN2, R16 AIN6/TSXM, T13 OM3, T15 OM0, T16 AIN4/TSYM, T17 AIN5/TSYP, U12 TCLK1/EINT19/GPG11, U16 Aref, U17 AIN1
part B pins: A2 SCKE, B3 SCLK1, B4 SCLK0, B5 nBE1:nWBE1:DQM1, C6 nSRAS, D1 ALE/GPA18, D2 nGCS6:nSCS0, D4 nBE0:nWBE0:DQM0, D5 nBE2:nWBE2:DQM2, D6 nSCAS, E1 nFRE/GPA20, E3 nGCS7:nSCS1, E5 nBE3:nWBE3:DQM3, F3 nFWE/GPA19, F4 nFCEGPA22, F5 CLE/GPA17, G6 FRnB, H15 nTRST, H17 TDI, J9 SDDATA3/GPE10, J10 nSS0/EINT10/GPG2, J11 nRTS1/TXD2/GPH6, J13 TCK, J14 TMS, J15 nCTS1/RXD2/GPH7, J16 TDO, K8 SDCMD/GPE6, K9 SPIMISO0/GPE11, K10 SPIMISO1/EINT13/GPG5, K11 nCTS0/GPH0, K13 TXD0/GPH2, K14 RXD0/GPH3, K15 UCLK/GPH8, K16 TXD1/GPH4, K17 RXD1/GPH5, L1 LEND/GPC0, L4 VCLK/GPC1, L6 VD1/GPC9, L7 VFRAME:VSYNC/GPC3, L8 I2SSDI/nSS0/GPE3, L9 SPICLK0/GPE13, L10 SPICLK1/EINT15/GPG7, L11 EINT22/GPG14, L17 nRTS0/GPH1, M1 VLINE:HSYNC/GPC2, M2 LCD_LPCREV/GPC6, M3 LCD_LPCOE/GPC5, M4 VM:VDEN/GPC4, M5 VD9/GPD1, M6 VD6/GPC14, M7 VD16/GPD8/SPIMISO1, M8 SDDATA1/GPE8, M9 IICSDA/GPE15, M10 EINT20/GPG12, N2 VD0/GPC8, N3 VD4/GPC12, N4 VD2/GPC10, N5 VD10/GPD2, N6 VD15/GPD7/USBOEN1, N7 VD22/nSS1/GPD14, N8 SDCLK/GPE5, N11 DP0, N12 DN1/PDN0, P1 LCD_LPCREVB/GPC7, P2 VD5/GPC13, P3 VD7/GPC15, P4 VD12/GPD4, P5 VD14/GPD6/USBTXDP1, P6 VD20/GPD12/USBRXDN1, P7 I2SLRCK/GPE0, P8 SDDATA2/GPE9, P9 SPIMOSI0/GPE12, P11 LCD_PWREN/EINT12/GPG4, P12 DN0, R1 VD3/GPC11, R2 VD8/GPD0, R3 VD11/GPD3, R4 VD13/GPD5/USBTXDN1, R5 VD18/GPD10/LPICLK1, R6 VD21/GPD13/USBRXD1, R7 I2SSCLK/GPE1, R8 SDDATA0/GPE7, R10 nSS1/EINT11/GPG3, R11 SPIMOSI1/EINT14/GPG6, R12 NCON, T4 VD17/GPD9/SPIMOSI1, T5 VD19/GPD11/USBRXDP1, T7 CDCLK/GPE2, T11 EINT21/GPG13, U5 VD23/nSS0/GPD15, U6 I2SSDO/I2SSDI/GPE4, U8 IICSCL/GPE14, U13 EINT23/GPG15, U14 DP1/PDP0
part C pins: A1 VDDi(1.2V), A3 VSSi, A4 VSSi, A5 VSSMOP, A6 VDDi(1.2V), A7 VSSMOP, A9 VDDMOP(SCLK,100MHz:3.3V), A10 VDDi(1.2V), A11 VSSMOP, A12 VSSi, A15 VSSMOP, A16 VDDi(1.2V), B1 VSSMOP, B6 VDDMOP(SCLK,100MHz:3.3V), B10 VSSi, B11 VDDi(1.2V), B12 VDDMOP(SCLK,100MHz:3.3V), B13 VSSMOP, B14 VDDMOP(SCLK,100MHz:3.3V), B16 VDDMOP(SCLK,100MHz:3.3V), C1 VDDMOP(SCLK,100MHz:3.3V), C17 VSSi, D16 VSSMOP, D17 VSSMOP, E2 VSSMOP, F1 VDDi(1.2V), F2 VSSi, F16 VDDi(1.2V), F17 VDDMOP(SCLK,100MHz:3.3V), G1 VSSMOP, G2 CAMHREF/GPJ10, G3 CAMDATA1/GPJ1, G4 VDDalive(1.2V), G5 CAMPCLK/GPJ8, G7 CAMVSYNC/GPJ9, G17 VSSi, H1 VSSiarm, H2 CAMDATA7/GPJ7, H3 CAMDATA4/GPJ4, H4 CAMDATA3/GPJ3, H5 CAMDATA2/GPJ2, H6 CAMDATA0/GPJ0, H7 CAMDATA5/GPJ5, H11 VSSMOP, H14 nBATT_FLT, H16 nRESET, J1 VDDOP()3.3V), J2 VDDiarm(1.2V), J3 CAMCLKOUT/GPJ11, J4 CAMRESET/GPJ12, J8 CAMDATA6/GPJ6, J12 PWREN, J17 VDDalive(1.2V), K1 vssiarm, K12 VDDOP()3.3V), L2 VDDiarm(1.2V), L13 EINT2/GPF2, L14 EINT5/GPF5, L15 EINT6/GPF6, L16 EINT7/GPF7, M11 EINT17/GPG9/nRST1, M12 VSSA_UPLL, M13 VDDA_UPLL(1.2V), M15 EINT3/GPF3, M16 EINT1/GPF1, M17 EINT4/GPF4, N1 VSSMOP, N9 EINT8/GPG0, N10 EINT18/GPG10/nCTS1, N13 nRSTOUT/GPA21, N15 VDD_RTC(3.3V), N16 VDDA_MPLL(1.2V), N17 EINT0/GPF0, P14 VDD_adc(3.3V), R17 VSSA_mPLL, T1 VSSiarm, T2 VSSiarm, T3 VDDOP()3.3V), T6 VDDiarm(1.2V), T8 VDDiarm(1.2V), T9 EINT9/GPG1, T10 EINT16/GPG8, T12 VDDOP()3.3V), T14 VSSA_ADC, U1 VDDiarm(1.2V), U2 VDDiarm(1.2V), U3 VSSMOP, U4 VSSiarm, U7 VSSiarm, U9 VSSMOP, U10 VSSiarm, U11 VDDiarm(1.2V), U15 VSSMOP
part A text: DMA; Chip Select; S3C2440; Address; Data; ADC; Clock; Timer
part B text: USS; IIC; IIS; SDRAM; SPI; TSP; NAND CTRL; LCD DATA; LCD CTRL; SDIO; UART; JTAG
part C text: EXT INT; CAMERA IF

## SIMCARD
designator J?, comment SIMCARD_Molex91228
footprint Amphenol C707
footprint Amphenol C707
pins: 1 VCC, 2 RST, 3 CLK, 4 presence, 5 GND, 6 VPP, 7 I/O, 8 detect
2 alternate drawings of the same symbol

## SMF05CT1G
designator U?
pins: 1, 2, 3, 4, 5, 6
2 alternate drawings of the same symbol

## SPEAKER
designator U?
蜂鸣器
footprint Speaker
pins: 1, 2

## STWD100
designator U?
电源管理
footprint SOT23-5BN (SOT23, 5-Leads, Body 2.9x1.6mm, Pitch 0.95mm, Lead Span 2.8mm, IPC Medium Density)
pins: 1 ~{WDO}, 2 GND, 3 ~{EN}, 4 WDI, 5 VCC

## Test Point
designator TP?, comment TP  (value not drawn)
Test Point
footprint TEST_POINT
pins: 1 TestPoint "Test Point"

## TJA1051T/3
designator U?
集成电路; 公司: NXP
footprint SOIC-SN8_N (Footprint not found)
pins: 1 TXD, 2 GND, 3 VCC, 4 RXD, 5 N.C., 6 CANL, 7 CANH, 8 S

## URB_MP-12W
designator U?, comment URB2405MP-12W
URB2405MP-12W 4:1 1500V 86%
pins: 1 CTR, 2 GND, 3 GND, 11 NC, 14 V+, 16 V-, 22 VIN, 23 VIN

## USBLC6-2SC6
designator U?
ESD; 公司: ST
footprint SOT26A-6N (SOT23, 6-Leads, Body 2.9x1.7mm, Pitch 0.95mm, Lead Span 2.8mm, IPC Medium Density)
pins: 1 IO1, 2 GND, 3 IO2, 4 IO2, 5 VCC, 6 IO1

## USBPORT
designator UH?, comment USB-A
集成电路; Text Field1: 50; Text Field2: 50
footprint USB-A
pins: 1 VBUS, 2 D-, 3 D+, 4 GND

## XTAL
designator Y?
Crystal Oscillator; Published: 8-Jun-2000; LatestRevisionDate: 17-Jul-2002; LatestRevisionNote: Re-released for DXP Platform.; PackageReference: R38; Publisher: Altium Limited; PackageDescription: Crystal, Thru-Hole; 2 Leads; Body 3.1 x 8.2 mm (Dia.xH)
simulation model XTAL (Spice Subcircuit)
footprint CRYSTAL_1
pins: 1 OSC1, 2 OSC2